# Altium schematic symbol library SMA.SchLib: 5 symbols
Pins are listed as number, name and electrical type; pins without a type are passive.

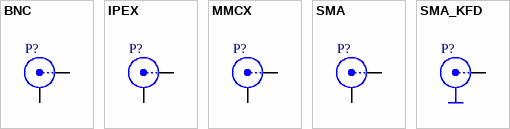
[diagram p0: symbols BNC to SMA_KFD]

## BNC
designator P?  (value not drawn)
BNC Connector
footprint BNC (Connector; BNC Elbow)
pins: 1 X, 2 Y

## IPEX
designator P?  (value not drawn)
IPEX Connector
footprint IPEX (Hand Drawn, 4-Leads, Body 1.7x1.7mm)
pins: 1 X, 2 Y

## MMCX
designator P?  (value not drawn)
MMCX Connector
footprint MMCX_KE
footprint MMCX_KWE
pins: 1 X, 2 Y

## SMA
designator P?  (value not drawn)
SMA Connector
footprint SMA-V
footprint SMA-SMT
footprint SMA_S
footprint SMA-SINGLESIDE
footprint SMA-V-NARROW
footprint SMA-SINGLESIDE-1.1mm
footprint SMA-SINGLESIDE-1.1mm-1G
footprint CON-HK-LR-SR2
pins: 1 X, 2 Y

## SMA_KFD
designator P?  (value not drawn)
SMA Connector
footprint SMA-KFD
pins: 1 X